# EAGLE library part SN74141 (library Parts)
BCD-TO-DECIMAL DECORDER/DRIVER
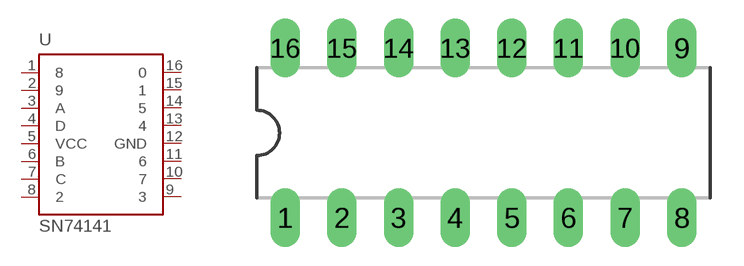
[diagram p2: symbol with the pads of DIL16; footprint DIL16]

Designator prefix U

## SN74141  [DIL16]
1  8  pas
2  9  pas
3  A  in
4  D  in
5  VCC  pas
6  B  in
7  C  in
8  2  pas
9  3  pas
10  7  pas
11  6  pas
12  GND  pas
13  4  pas
14  5  pas
15  1  pas
16  0  pas

## Footprint DIL16 (pad centres in mm)
Dual In Line Package
drill 0.813 long: 1 0,0; 2 2.54,0; 3 5.08,0; 4 7.62,0; 5 10.16,0; 6 12.7,0; 7 15.24,0; 8 17.78,0; 9 17.78,7.62; 10 15.24,7.62; 11 12.7,7.62; 12 10.16,7.62; 13 7.62,7.62; 14 5.08,7.62; 15 2.54,7.62; 16 0,7.62